# Altium schematic symbol library X_GROUNDED.Schlib: 1 symbol
Pins are listed as number, name and electrical type; pins without a type are passive.

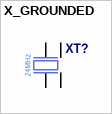
[diagram p0: symbol X_GROUNDED]

## X_GROUNDED
designator XT?  Frequency: 24MHz  (hidden comment: X_GROUNDED)
Resonator Ceramic
pins: 1 IN, 2 GND, 3 OUT, 4 GND